# EAGLE library part ATMEGA168-DIP28 (library boztalay)
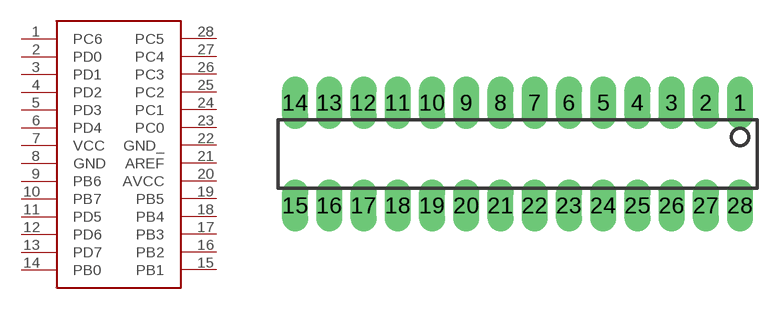
[diagram p4: symbol with the pads of DIP28; footprint DIP28]

Designator prefix -

## ATMEGA168-DIP28  [DIP28]
1  PC6
2  PD0
3  PD1
4  PD2
5  PD3
6  PD4
7  VCC
8  GND
9  PB6
10  PB7
11  PD5
12  PD6
13  PD7
14  PB0
15  PB1
16  PB2
17  PB3
18  PB4
19  PB5
20  AVCC
21  AREF
22  GND_
23  PC0
24  PC1
25  PC2
26  PC3
27  PC4
28  PC5

## Footprint DIP28 (pad centres in mm)
drill 1 pad 1.93 long: 1 16.51,3.81; 2 13.97,3.81; 3 11.43,3.81; 4 8.89,3.81; 5 6.35,3.81; 6 3.81,3.81; 7 1.27,3.81; 8 -1.27,3.81; 9 -3.81,3.81; 10 -6.35,3.81; 11 -8.89,3.81; 12 -11.43,3.81; 13 -13.97,3.81; 14 -16.51,3.81; 15 -16.51,-3.81; 16 -13.97,-3.81; 17 -11.43,-3.81; 18 -8.89,-3.81; 19 -6.35,-3.81; 20 -3.81,-3.81; 21 -1.27,-3.81; 22 1.27,-3.81; 23 3.81,-3.81; 24 6.35,-3.81; 25 8.89,-3.81; 26 11.43,-3.81; 27 13.97,-3.81; 28 16.51,-3.81